# Altium integrated library Microchip Power Management MOSFET Driver.IntLib: 509 symbols (part 1 of 13)
Pins are listed as number, name and electrical type; pins without a type are passive.

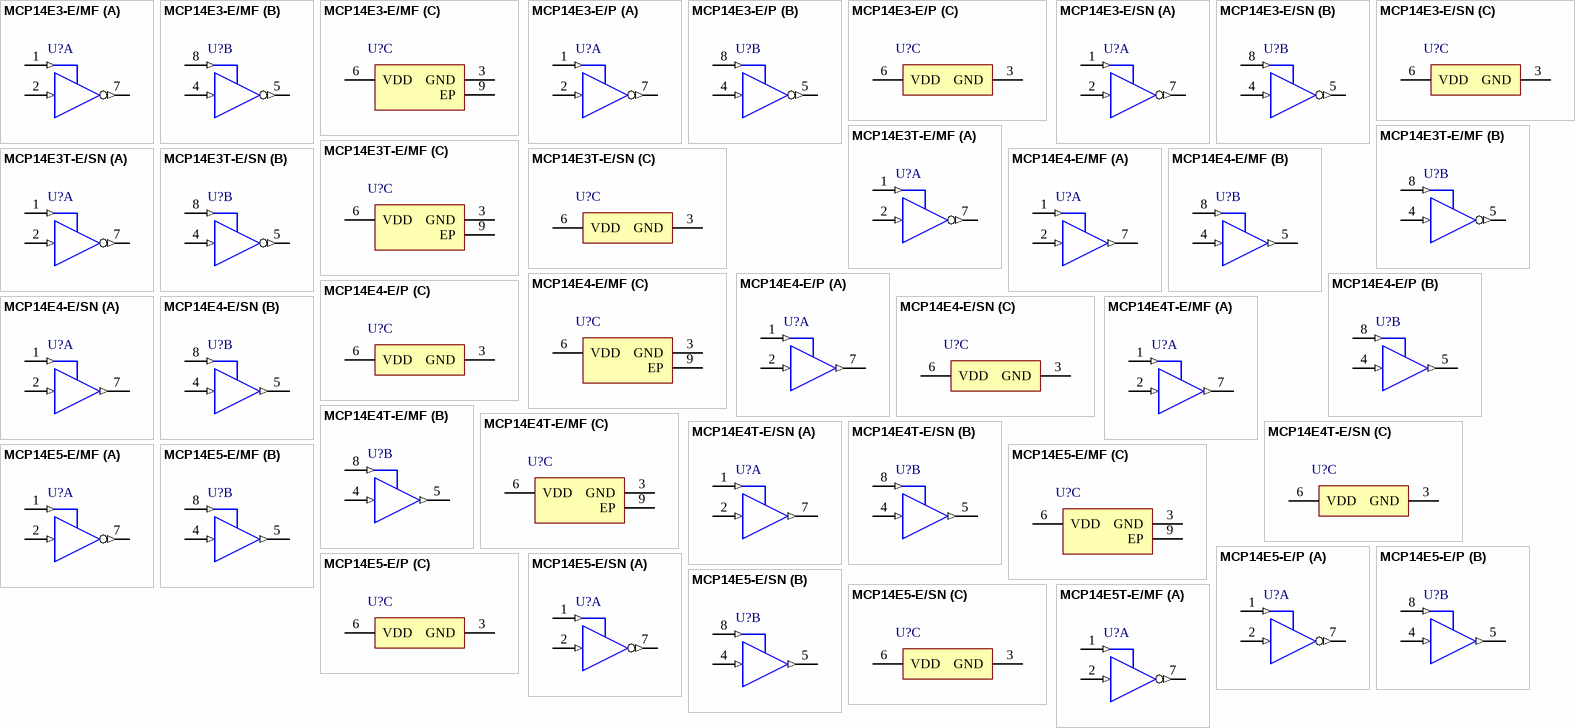
[diagram p0: symbols MCP14E3-E/MF to MCP14E5T-E/MF]

## MCP14E3-E/MF
designator U?
4.0A Dual High-Speed Power MOSFET Drivers With Enable, Inverting, Extended Temperature; Manufacturer: Microchip; PartNumber: MCP14E3-E/MF; DatasheetVersion: revB, Apr-2008; PackageVersion: revBB, Aug-2009; PackageReference: DFN-MF8; PackageDescription: 8-Lead Plastic Dual Flat, No Lead Package (MF) - 3x3x0.9mm Body [DFN]; Supplier 1: Digi-Key; Supplier Part Number 1: MCP14E3-E/MF-ND; Supplier 2: Mouser; Supplier Part Number 2: 579-MCP14E3-E/MF; Mounting Technology: Surface Mount; ComponentLink1Description: Manufacturer URL; ComponentLink1URL: http://www.microchip.com/; ComponentLink2Description: Datasheet; ComponentLink2URL: http://ww1.microchip.com/downloads/en/DeviceDoc/22062b.pdf; ComponentLink3Description: Package Specification; ComponentLink3URL: http://www.microchip.com/stellent/groups/techpub_sg/documents/packagingspec/en012702.pdf
footprint DFN-MF8 (SON, 8-Leads, Body 3x3mm, Pitch 0.65mm, Microchip Recommended)
part A pins: 1 ENB_A (in), 2 INA (in), 7 ~{OUTA} (out)
part B pins: 4 INB (in), 5 ~{OUTB} (out), 8 ENB_B (in)
part C pins: 3 GND (power), 6 VDD (power), 9 EP (power)

## MCP14E3-E/P
designator U?
4.0A Dual High-Speed Power MOSFET Drivers With Enable, Inverting, Extended Temperature; Manufacturer: Microchip; PartNumber: MCP14E3-E/P; DatasheetVersion: revB, Apr-2008; PackageVersion: revBB, Aug-2009; PackageReference: PDIP300-P8; PackageDescription: 8-Lead Plastic Dual In-Line (P) - 300 mil Body [PDIP]; Supplier 1: Digi-Key; Supplier Part Number 1: MCP14E3-E/P-ND; Supplier 2: Farnell; Supplier Part Number 2: 1578353; Supplier 3: Newark; Supplier Part Number 3: 08N6428; Supplier 4: Mouser; Supplier Part Number 4: 579-MCP14E3-E/P; Mounting Technology: Through Hole; Code_JEDEC: MS-001; ComponentLink1Description: Manufacturer URL; ComponentLink1URL: http://www.microchip.com/; ComponentLink2Description: Datasheet; ComponentLink2URL: http://ww1.microchip.com/downloads/en/DeviceDoc/22062b.pdf; ComponentLink3Description: Package Specification; ComponentLink3URL: http://www.microchip.com/stellent/groups/techpub_sg/documents/packagingspec/en012702.pdf
footprint PDIP300-P8 (DIP, 8-Leads, Row Spacing 7.62mm, Pitch 2.54mm, Body 9.5x6.6mm)
part A pins: 1 ENB_A (in), 2 INA (in), 7 ~{OUTA} (out)
part B pins: 4 INB (in), 5 ~{OUTB} (out), 8 ENB_B (in)
part C pins: 3 GND (power), 6 VDD (power)

## MCP14E3-E/SN
designator U?
4.0A Dual High-Speed Power MOSFET Drivers With Enable, Inverting, Extended Temperature; Manufacturer: Microchip; PartNumber: MCP14E3-E/SN; DatasheetVersion: revB, Apr-2008; PackageVersion: revBB, Aug-2009; PackageReference: SOIC-SN8; PackageDescription: 8-Lead Plastic Small Outline (SN) - Narrow, 3.90mm Body [SOIC]; Supplier 1: Digi-Key; Supplier Part Number 1: MCP14E3-E/SN-ND; Supplier 2: Farnell; Supplier Part Number 2: 1578354; Supplier 3: Newark; Supplier Part Number 3: 08N6429; Supplier 4: Mouser; Supplier Part Number 4: 579-MCP14E3-E/SN; Mounting Technology: Surface Mount; Code_JEDEC: MS-012; Code_IPC: SOIC127P600-8; ComponentLink1Description: Manufacturer URL; ComponentLink1URL: http://www.microchip.com/; ComponentLink2Description: Datasheet; ComponentLink2URL: http://ww1.microchip.com/downloads/en/DeviceDoc/22062b.pdf; ComponentLink3Description: Package Specification; ComponentLink3URL: http://www.microchip.com/stellent/groups/techpub_sg/documents/packagingspec/en012702.pdf
footprint SOIC-SN8_N (SOIC, 8-Leads, Body 4.9x3.8mm, Pitch 1.27mm, IPC Medium Density)
footprint SOIC-SN8_L (SOIC, 8-Leads, Body 4.9x3.8mm, Pitch 1.27mm, IPC High Density)
footprint SOIC-SN8_M (SOIC, 8-Leads, Body 4.9x3.8mm, Pitch 1.27mm, IPC Low Density)
part A pins: 1 ENB_A (in), 2 INA (in), 7 ~{OUTA} (out)
part B pins: 4 INB (in), 5 ~{OUTB} (out), 8 ENB_B (in)
part C pins: 3 GND (power), 6 VDD (power)

## MCP14E3T-E/MF
designator U?
4.0A Dual High-Speed Power MOSFET Drivers With Enable, Inverting, Extended Temperature, Tape and Reel; Manufacturer: Microchip; PartNumber: MCP14E3T-E/MF; DatasheetVersion: revB, Apr-2008; PackageVersion: revBB, Aug-2009; PackageReference: DFN-MF8; PackageDescription: 8-Lead Plastic Dual Flat, No Lead Package (MF) - 3x3x0.9mm Body [DFN]; Supplier 1: Digi-Key; Supplier Part Number 1: MCP14E3T-E/MFTR-ND; Supplier 2: Mouser; Supplier Part Number 2: 579-MCP14E3T-E/MF; Mounting Technology: Surface Mount; ComponentLink1Description: Manufacturer URL; ComponentLink1URL: http://www.microchip.com/; ComponentLink2Description: Datasheet; ComponentLink2URL: http://ww1.microchip.com/downloads/en/DeviceDoc/22062b.pdf; ComponentLink3Description: Package Specification; ComponentLink3URL: http://www.microchip.com/stellent/groups/techpub_sg/documents/packagingspec/en012702.pdf
footprint DFN-MF8 (SON, 8-Leads, Body 3x3mm, Pitch 0.65mm, Microchip Recommended)
part A pins: 1 ENB_A (in), 2 INA (in), 7 ~{OUTA} (out)
part B pins: 4 INB (in), 5 ~{OUTB} (out), 8 ENB_B (in)
part C pins: 3 GND (power), 6 VDD (power), 9 EP (power)

## MCP14E3T-E/SN
designator U?
4.0A Dual High-Speed Power MOSFET Drivers With Enable, Inverting, Extended Temperature, Tape and Reel; Manufacturer: Microchip; PartNumber: MCP14E3T-E/SN; DatasheetVersion: revB, Apr-2008; PackageVersion: revBB, Aug-2009; PackageReference: SOIC-SN8; PackageDescription: 8-Lead Plastic Small Outline (SN) - Narrow, 3.90mm Body [SOIC]; Supplier 1: Digi-Key; Supplier Part Number 1: MCP14E3T-E/SNTR-ND; Supplier 2: Mouser; Supplier Part Number 2: 579-MCP14E3T-E/SN; Mounting Technology: Surface Mount; Code_JEDEC: MS-012; Code_IPC: SOIC127P600-8; ComponentLink1Description: Manufacturer URL; ComponentLink1URL: http://www.microchip.com/; ComponentLink2Description: Datasheet; ComponentLink2URL: http://ww1.microchip.com/downloads/en/DeviceDoc/22062b.pdf; ComponentLink3Description: Package Specification; ComponentLink3URL: http://www.microchip.com/stellent/groups/techpub_sg/documents/packagingspec/en012702.pdf
footprint SOIC-SN8_N (SOIC, 8-Leads, Body 4.9x3.8mm, Pitch 1.27mm, IPC Medium Density)
footprint SOIC-SN8_L (SOIC, 8-Leads, Body 4.9x3.8mm, Pitch 1.27mm, IPC High Density)
footprint SOIC-SN8_M (SOIC, 8-Leads, Body 4.9x3.8mm, Pitch 1.27mm, IPC Low Density)
part A pins: 1 ENB_A (in), 2 INA (in), 7 ~{OUTA} (out)
part B pins: 4 INB (in), 5 ~{OUTB} (out), 8 ENB_B (in)
part C pins: 3 GND (power), 6 VDD (power)

## MCP14E4-E/MF
designator U?
4.0A Dual High-Speed Power MOSFET Drivers With Enable, Non Inverting, Extended Temperature; Manufacturer: Microchip; PartNumber: MCP14E4-E/MF; DatasheetVersion: revB, Apr-2008; PackageVersion: revBB, Aug-2009; PackageReference: DFN-MF8; PackageDescription: 8-Lead Plastic Dual Flat, No Lead Package (MF) - 3x3x0.9mm Body [DFN]; Supplier 1: Digi-Key; Supplier Part Number 1: MCP14E4-E/MF-ND; Supplier 2: Mouser; Supplier Part Number 2: 579-MCP14E4-E/MF; Mounting Technology: Surface Mount; ComponentLink1Description: Manufacturer URL; ComponentLink1URL: http://www.microchip.com/; ComponentLink2Description: Datasheet; ComponentLink2URL: http://ww1.microchip.com/downloads/en/DeviceDoc/22062b.pdf; ComponentLink3Description: Package Specification; ComponentLink3URL: http://www.microchip.com/stellent/groups/techpub_sg/documents/packagingspec/en012702.pdf
footprint DFN-MF8 (SON, 8-Leads, Body 3x3mm, Pitch 0.65mm, Microchip Recommended)
part A pins: 1 ENB_A (in), 2 INA (in), 7 OUTA (out)
part B pins: 4 INB (in), 5 OUTB (out), 8 ENB_B (in)
part C pins: 3 GND (power), 6 VDD (power), 9 EP (power)

## MCP14E4-E/P
designator U?
4.0A Dual High-Speed Power MOSFET Drivers With Enable, Non Inverting, Extended Temperature; Manufacturer: Microchip; PartNumber: MCP14E4-E/P; DatasheetVersion: revB, Apr-2008; PackageVersion: revBB, Aug-2009; PackageReference: PDIP300-P8; PackageDescription: 8-Lead Plastic Dual In-Line (P) - 300 mil Body [PDIP]; Supplier 1: Digi-Key; Supplier Part Number 1: MCP14E4-E/P-ND; Supplier 2: Farnell; Supplier Part Number 2: 1578355; Supplier 3: Newark; Supplier Part Number 3: 08N6430; Supplier 4: Mouser; Supplier Part Number 4: 579-MCP14E4-E/P; Mounting Technology: Through Hole; Code_JEDEC: MS-001; ComponentLink1Description: Manufacturer URL; ComponentLink1URL: http://www.microchip.com/; ComponentLink2Description: Datasheet; ComponentLink2URL: http://ww1.microchip.com/downloads/en/DeviceDoc/22062b.pdf; ComponentLink3Description: Package Specification; ComponentLink3URL: http://www.microchip.com/stellent/groups/techpub_sg/documents/packagingspec/en012702.pdf
footprint PDIP300-P8 (DIP, 8-Leads, Row Spacing 7.62mm, Pitch 2.54mm, Body 9.5x6.6mm)
part A pins: 1 ENB_A (in), 2 INA (in), 7 OUTA (out)
part B pins: 4 INB (in), 5 OUTB (out), 8 ENB_B (in)
part C pins: 3 GND (power), 6 VDD (power)

## MCP14E4-E/SN
designator U?
4.0A Dual High-Speed Power MOSFET Drivers With Enable, Non Inverting, Extended Temperature; Manufacturer: Microchip; PartNumber: MCP14E4-E/SN; DatasheetVersion: revB, Apr-2008; PackageVersion: revBB, Aug-2009; PackageReference: SOIC-SN8; PackageDescription: 8-Lead Plastic Small Outline (SN) - Narrow, 3.90mm Body [SOIC]; Supplier 1: Digi-Key; Supplier Part Number 1: MCP14E4-E/SN-ND; Supplier 2: Farnell; Supplier Part Number 2: 1578356; Supplier 3: Newark; Supplier Part Number 3: 08N6431; Supplier 4: Mouser; Supplier Part Number 4: 579-MCP14E4-E/SN; Mounting Technology: Surface Mount; Code_JEDEC: MS-012; Code_IPC: SOIC127P600-8; ComponentLink1Description: Manufacturer URL; ComponentLink1URL: http://www.microchip.com/; ComponentLink2Description: Datasheet; ComponentLink2URL: http://ww1.microchip.com/downloads/en/DeviceDoc/22062b.pdf; ComponentLink3Description: Package Specification; ComponentLink3URL: http://www.microchip.com/stellent/groups/techpub_sg/documents/packagingspec/en012702.pdf
footprint SOIC-SN8_N (SOIC, 8-Leads, Body 4.9x3.8mm, Pitch 1.27mm, IPC Medium Density)
footprint SOIC-SN8_L (SOIC, 8-Leads, Body 4.9x3.8mm, Pitch 1.27mm, IPC High Density)
footprint SOIC-SN8_M (SOIC, 8-Leads, Body 4.9x3.8mm, Pitch 1.27mm, IPC Low Density)
part A pins: 1 ENB_A (in), 2 INA (in), 7 OUTA (out)
part B pins: 4 INB (in), 5 OUTB (out), 8 ENB_B (in)
part C pins: 3 GND (power), 6 VDD (power)

## MCP14E4T-E/MF
designator U?
4.0A Dual High-Speed Power MOSFET Drivers With Enable, Non Inverting, Extended Temperature, Tape and Reel; Manufacturer: Microchip; PartNumber: MCP14E4T-E/MF; DatasheetVersion: revB, Apr-2008; PackageVersion: revBB, Aug-2009; PackageReference: DFN-MF8; PackageDescription: 8-Lead Plastic Dual Flat, No Lead Package (MF) - 3x3x0.9mm Body [DFN]; Supplier 1: Digi-Key; Supplier Part Number 1: MCP14E4T-E/MFTR-ND; Supplier 2: Mouser; Supplier Part Number 2: 579-MCP14E4T-E/MF; Mounting Technology: Surface Mount; ComponentLink1Description: Manufacturer URL; ComponentLink1URL: http://www.microchip.com/; ComponentLink2Description: Datasheet; ComponentLink2URL: http://ww1.microchip.com/downloads/en/DeviceDoc/22062b.pdf; ComponentLink3Description: Package Specification; ComponentLink3URL: http://www.microchip.com/stellent/groups/techpub_sg/documents/packagingspec/en012702.pdf
footprint DFN-MF8 (SON, 8-Leads, Body 3x3mm, Pitch 0.65mm, Microchip Recommended)
part A pins: 1 ENB_A (in), 2 INA (in), 7 OUTA (out)
part B pins: 4 INB (in), 5 OUTB (out), 8 ENB_B (in)
part C pins: 3 GND (power), 6 VDD (power), 9 EP (power)

## MCP14E4T-E/SN
designator U?
4.0A Dual High-Speed Power MOSFET Drivers With Enable, Non Inverting, Extended Temperature, Tape and Reel; Manufacturer: Microchip; PartNumber: MCP14E4T-E/SN; DatasheetVersion: revB, Apr-2008; PackageVersion: revBB, Aug-2009; PackageReference: SOIC-SN8; PackageDescription: 8-Lead Plastic Small Outline (SN) - Narrow, 3.90mm Body [SOIC]; Supplier 1: Digi-Key; Supplier Part Number 1: MCP14E4T-E/SNTR-ND; Supplier 2: Mouser; Supplier Part Number 2: 579-MCP14E4T-E/SN; Mounting Technology: Surface Mount; Code_JEDEC: MS-012; Code_IPC: SOIC127P600-8; ComponentLink1Description: Manufacturer URL; ComponentLink1URL: http://www.microchip.com/; ComponentLink2Description: Datasheet; ComponentLink2URL: http://ww1.microchip.com/downloads/en/DeviceDoc/22062b.pdf; ComponentLink3Description: Package Specification; ComponentLink3URL: http://www.microchip.com/stellent/groups/techpub_sg/documents/packagingspec/en012702.pdf
footprint SOIC-SN8_N (SOIC, 8-Leads, Body 4.9x3.8mm, Pitch 1.27mm, IPC Medium Density)
footprint SOIC-SN8_L (SOIC, 8-Leads, Body 4.9x3.8mm, Pitch 1.27mm, IPC High Density)
footprint SOIC-SN8_M (SOIC, 8-Leads, Body 4.9x3.8mm, Pitch 1.27mm, IPC Low Density)
part A pins: 1 ENB_A (in), 2 INA (in), 7 OUTA (out)
part B pins: 4 INB (in), 5 OUTB (out), 8 ENB_B (in)
part C pins: 3 GND (power), 6 VDD (power)

## MCP14E5-E/MF
designator U?
4.0A Dual High-Speed Power MOSFET Drivers With Enable, Complimentary, Extended Temperature; Manufacturer: Microchip; PartNumber: MCP14E5-E/MF; DatasheetVersion: revB, Apr-2008; PackageVersion: revBB, Aug-2009; PackageReference: DFN-MF8; PackageDescription: 8-Lead Plastic Dual Flat, No Lead Package (MF) - 3x3x0.9mm Body [DFN]; Supplier 1: Digi-Key; Supplier Part Number 1: MCP14E5-E/MF-ND; Supplier 2: Mouser; Supplier Part Number 2: 579-MCP14E5-E/MF; Mounting Technology: Surface Mount; ComponentLink1Description: Manufacturer URL; ComponentLink1URL: http://www.microchip.com/; ComponentLink2Description: Datasheet; ComponentLink2URL: http://ww1.microchip.com/downloads/en/DeviceDoc/22062b.pdf; ComponentLink3Description: Package Specification; ComponentLink3URL: http://www.microchip.com/stellent/groups/techpub_sg/documents/packagingspec/en012702.pdf
footprint DFN-MF8 (SON, 8-Leads, Body 3x3mm, Pitch 0.65mm, Microchip Recommended)
part A pins: 1 ENB_A (in), 2 INA (in), 7 ~{OUTA} (out)
part B pins: 4 INB (in), 5 OUTB (out), 8 ENB_B (in)
part C pins: 3 GND (power), 6 VDD (power), 9 EP (power)

## MCP14E5-E/P
designator U?
4.0A Dual High-Speed Power MOSFET Drivers With Enable, Complimentary, Extended Temperature; Manufacturer: Microchip; PartNumber: MCP14E5-E/P; DatasheetVersion: revB, Apr-2008; PackageVersion: revBB, Aug-2009; PackageReference: PDIP300-P8; PackageDescription: 8-Lead Plastic Dual In-Line (P) - 300 mil Body [PDIP]; Supplier 1: Digi-Key; Supplier Part Number 1: MCP14E5-E/P-ND; Supplier 2: Farnell; Supplier Part Number 2: 1578357; Supplier 3: Newark; Supplier Part Number 3: 08N6432; Supplier 4: Mouser; Supplier Part Number 4: 579-MCP14E5-E/P; Mounting Technology: Through Hole; Code_JEDEC: MS-001; ComponentLink1Description: Manufacturer URL; ComponentLink1URL: http://www.microchip.com/; ComponentLink2Description: Datasheet; ComponentLink2URL: http://ww1.microchip.com/downloads/en/DeviceDoc/22062b.pdf; ComponentLink3Description: Package Specification; ComponentLink3URL: http://www.microchip.com/stellent/groups/techpub_sg/documents/packagingspec/en012702.pdf
footprint PDIP300-P8 (DIP, 8-Leads, Row Spacing 7.62mm, Pitch 2.54mm, Body 9.5x6.6mm)
part A pins: 1 ENB_A (in), 2 INA (in), 7 ~{OUTA} (out)
part B pins: 4 INB (in), 5 OUTB (out), 8 ENB_B (in)
part C pins: 3 GND (power), 6 VDD (power)

## MCP14E5-E/SN
designator U?
4.0A Dual High-Speed Power MOSFET Drivers With Enable, Complimentary, Extended Temperature; Manufacturer: Microchip; PartNumber: MCP14E5-E/SN; DatasheetVersion: revB, Apr-2008; PackageVersion: revBB, Aug-2009; PackageReference: SOIC-SN8; PackageDescription: 8-Lead Plastic Small Outline (SN) - Narrow, 3.90mm Body [SOIC]; Supplier 1: Digi-Key; Supplier Part Number 1: MCP14E5-E/SN-ND; Supplier 2: Farnell; Supplier Part Number 2: 1578358; Supplier 3: Newark; Supplier Part Number 3: 08N6433; Supplier 4: Mouser; Supplier Part Number 4: 579-MCP14E5-E/SN; Mounting Technology: Surface Mount; Code_JEDEC: MS-012; Code_IPC: SOIC127P600-8; ComponentLink1Description: Manufacturer URL; ComponentLink1URL: http://www.microchip.com/; ComponentLink2Description: Datasheet; ComponentLink2URL: http://ww1.microchip.com/downloads/en/DeviceDoc/22062b.pdf; ComponentLink3Description: Package Specification; ComponentLink3URL: http://www.microchip.com/stellent/groups/techpub_sg/documents/packagingspec/en012702.pdf
footprint SOIC-SN8_N (SOIC, 8-Leads, Body 4.9x3.8mm, Pitch 1.27mm, IPC Medium Density)
footprint SOIC-SN8_L (SOIC, 8-Leads, Body 4.9x3.8mm, Pitch 1.27mm, IPC High Density)
footprint SOIC-SN8_M (SOIC, 8-Leads, Body 4.9x3.8mm, Pitch 1.27mm, IPC Low Density)
part A pins: 1 ENB_A (in), 2 INA (in), 7 ~{OUTA} (out)
part B pins: 4 INB (in), 5 OUTB (out), 8 ENB_B (in)
part C pins: 3 GND (power), 6 VDD (power)

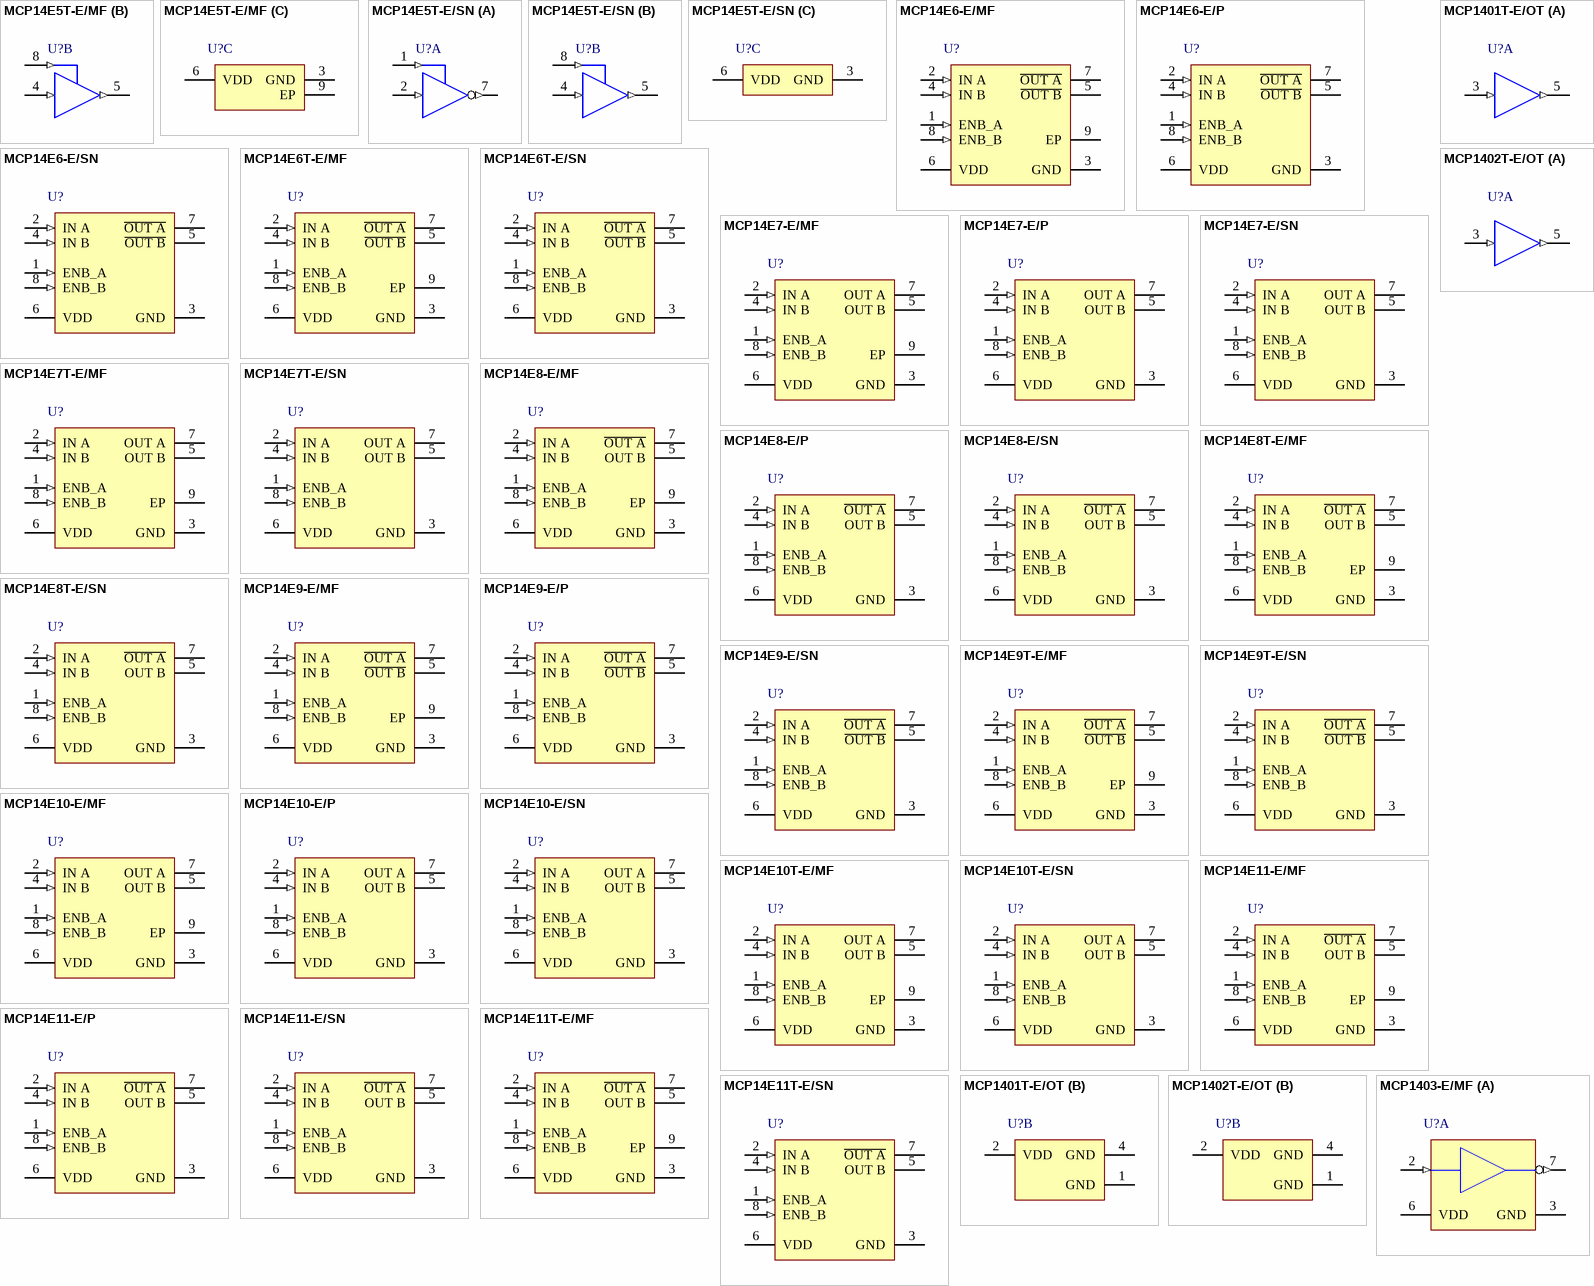
[diagram p1: symbols MCP14E5T-E/MF to MCP1403-E/MF]

## MCP14E5T-E/MF
designator U?
4.0A Dual High-Speed Power MOSFET Drivers With Enable, Complimentary, Extended Temperature, Tape and Reel; Manufacturer: Microchip; PartNumber: MCP14E5T-E/MF; DatasheetVersion: revB, Apr-2008; PackageVersion: revBB, Aug-2009; PackageReference: DFN-MF8; PackageDescription: 8-Lead Plastic Dual Flat, No Lead Package (MF) - 3x3x0.9mm Body [DFN]; Supplier 1: Digi-Key; Supplier Part Number 1: MCP14E5T-E/MFTR-ND; Supplier 2: Mouser; Supplier Part Number 2: 579-MCP14E5T-E/MF; Mounting Technology: Surface Mount; ComponentLink1Description: Manufacturer URL; ComponentLink1URL: http://www.microchip.com/; ComponentLink2Description: Datasheet; ComponentLink2URL: http://ww1.microchip.com/downloads/en/DeviceDoc/22062b.pdf; ComponentLink3Description: Package Specification; ComponentLink3URL: http://www.microchip.com/stellent/groups/techpub_sg/documents/packagingspec/en012702.pdf
footprint DFN-MF8 (SON, 8-Leads, Body 3x3mm, Pitch 0.65mm, Microchip Recommended)
part A pins: 1 ENB_A (in), 2 INA (in), 7 ~{OUTA} (out)
part B pins: 4 INB (in), 5 OUTB (out), 8 ENB_B (in)
part C pins: 3 GND (power), 6 VDD (power), 9 EP (power)

## MCP14E5T-E/SN
designator U?
4.0A Dual High-Speed Power MOSFET Drivers With Enable, Complimentary, Extended Temperature, Tape and Reel; Manufacturer: Microchip; PartNumber: MCP14E5T-E/SN; DatasheetVersion: revB, Apr-2008; PackageVersion: revBB, Aug-2009; PackageReference: SOIC-SN8; PackageDescription: 8-Lead Plastic Small Outline (SN) - Narrow, 3.90mm Body [SOIC]; Supplier 1: Digi-Key; Supplier Part Number 1: MCP14E5T-E/SNTR-ND; Supplier 2: Mouser; Supplier Part Number 2: 579-MCP14E5T-E/SN; Mounting Technology: Surface Mount; Code_JEDEC: MS-012; Code_IPC: SOIC127P600-8; ComponentLink1Description: Manufacturer URL; ComponentLink1URL: http://www.microchip.com/; ComponentLink2Description: Datasheet; ComponentLink2URL: http://ww1.microchip.com/downloads/en/DeviceDoc/22062b.pdf; ComponentLink3Description: Package Specification; ComponentLink3URL: http://www.microchip.com/stellent/groups/techpub_sg/documents/packagingspec/en012702.pdf
footprint SOIC-SN8_N (SOIC, 8-Leads, Body 4.9x3.8mm, Pitch 1.27mm, IPC Medium Density)
footprint SOIC-SN8_L (SOIC, 8-Leads, Body 4.9x3.8mm, Pitch 1.27mm, IPC High Density)
footprint SOIC-SN8_M (SOIC, 8-Leads, Body 4.9x3.8mm, Pitch 1.27mm, IPC Low Density)
part A pins: 1 ENB_A (in), 2 INA (in), 7 ~{OUTA} (out)
part B pins: 4 INB (in), 5 OUTB (out), 8 ENB_B (in)
part C pins: 3 GND (power), 6 VDD (power)

## MCP14E6-E/MF
designator U?
2.0 A Dual High-Speed Power MOSFET Driver with Enable, 18 V, 45 / 45 ns Delay, -40 to 125 degC, 8-pin DFN (MF8), Tube; Manufacturer: Microchip; PartNumber: MCP14E6-E/MF; DatasheetVersion: Rev. A; PackageVersion: C04-062C; PackageReference: DFN-MF8; PackageDescription: 8-Lead Plastic Dual Flat, No Lead Package, 3 x 3 mm Body, 0.65 mm Pitch; Supplier 1: Digi-Key; Supplier Part Number 1: MCP14E6-E/MF-ND; Supplier 2: Farnell; Supplier Part Number 2: 1925032; Supplier 3: Newark; Supplier Part Number 3: 41T4119; Supplier 4: Mouser; Supplier Part Number 4: 579-MCP14E6-E/MF; Mounting Technology: Surface Mount; ComponentLink1Description: Manufacturer URL; ComponentLink1URL: http://www.microchip.com; ComponentLink2Description: Datasheet; ComponentLink2URL: http://ww1.microchip.com/downloads/en/DeviceDoc/25006A.pdf; ComponentLink3Description: Package Specification; ComponentLink3URL: http://www.microchip.com/stellent/groups/techpub_sg/documents/packagingspec/en012702.pdf; ComponentLink4Description: Product URL; ComponentLink4URL: http://www.microchip.com/MCP14E6
footprint MCHP-DFN-MF8_V (SON, 8-Leads, Body 3x3mm, Pitch 0.65mm, Thermal Pad 2.4x1.55mm)
pins: 1 ENB_A (in) "Ouptut A Enable", 2 IN A (in) "Input A", 3 GND (power) "Ground", 4 IN B (in) "Input B", 5 ~{OUT B} (power) "Output B", 6 VDD (power) "Supply Input", 7 ~{OUT A} (power) "Output A", 8 ENB_B (in) "Output B Enable", 9 EP "Exposed Metal Pad (DFN package only). Exposed pad is electrically isolated."

## MCP14E6-E/P
designator U?
2.0 A Dual High-Speed Power MOSFET Driver with Enable, 18 V, 45 / 45 ns Delay, -40 to 125 degC, 8-pin PDIP (P8), Tube; Manufacturer: Microchip; PartNumber: MCP14E6-E/P; DatasheetVersion: Rev. A; PackageVersion: C04-018B; PackageReference: PDIP-P8; PackageDescription: 8-Pin Plastic Dual In-Line, Row Spacing 7.62 mm, 9.5 x 6.6 mm Body, 2.54 mm Pitch; Supplier 1: Digi-Key; Supplier Part Number 1: MCP14E6-E/P-ND; Supplier 2: Farnell; Supplier Part Number 2: 1925033; Supplier 3: Newark; Supplier Part Number 3: 41T4120; Supplier 4: Mouser; Supplier Part Number 4: 579-MCP14E6-E/P; Mounting Technology: Through Hole; ComponentLink1Description: Manufacturer URL; ComponentLink1URL: http://www.microchip.com; ComponentLink2Description: Datasheet; ComponentLink2URL: http://ww1.microchip.com/downloads/en/DeviceDoc/25006A.pdf; ComponentLink3Description: Package Specification; ComponentLink3URL: http://www.microchip.com/stellent/groups/techpub_sg/documents/packagingspec/en012702.pdf; ComponentLink4Description: Product URL; ComponentLink4URL: http://www.microchip.com/MCP14E6
footprint MCHP-PDIP-P8 (PDIP, 8-Leads, Body 9.5x6.604mm, Pitch 2.54mm)
pins: 1 ENB_A (in) "Ouptut A Enable", 2 IN A (in) "Input A", 3 GND (power) "Ground", 4 IN B (in) "Input B", 5 ~{OUT B} (power) "Output B", 6 VDD (power) "Supply Input", 7 ~{OUT A} (power) "Output A", 8 ENB_B (in) "Output B Enable"

## MCP14E6-E/SN
designator U?
2.0 A Dual High-Speed Power MOSFET Driver with Enable, 18 V, 45 / 45 ns Delay, -40 to 125 degC, 8-pin SOIC (SN8), Tube; Manufacturer: Microchip; PartNumber: MCP14E6-E/SN; DatasheetVersion: Rev. A; PackageVersion: C04-057C; PackageReference: SOIC-SN8; PackageDescription: 8-Lead Plastic Small Outline, 4.9 x 3.9 mm Body, 1.27 mm Pitch; Supplier 1: Digi-Key; Supplier Part Number 1: MCP14E6-E/SN-ND; Supplier 2: Farnell; Supplier Part Number 2: 1925034; Supplier 3: Newark; Supplier Part Number 3: 41T4121; Supplier 4: Mouser; Supplier Part Number 4: 579-MCP14E6-E/SN; Mounting Technology: Surface Mount; ComponentLink1Description: Manufacturer URL; ComponentLink1URL: http://www.microchip.com; ComponentLink2Description: Datasheet; ComponentLink2URL: http://ww1.microchip.com/downloads/en/DeviceDoc/25006A.pdf; ComponentLink3Description: Package Specification; ComponentLink3URL: http://www.microchip.com/stellent/groups/techpub_sg/documents/packagingspec/en012702.pdf; ComponentLink4Description: Product URL; ComponentLink4URL: http://www.microchip.com/MCP14E6
footprint MCHP-SOIC-SN8_N (SOIC, 8-Leads, Body 4.9x3.9mm, Pitch 1.27mm, IPC Medium Density)
footprint MCHP-SOIC-SN8_L (SOIC, 8-Leads, Body 4.9x3.9mm, Pitch 1.27mm, IPC High Density)
footprint MCHP-SOIC-SN8_M (SOIC, 8-Leads, Body 4.9x3.9mm, Pitch 1.27mm, IPC Low Density)
pins: 1 ENB_A (in) "Ouptut A Enable", 2 IN A (in) "Input A", 3 GND (power) "Ground", 4 IN B (in) "Input B", 5 ~{OUT B} (power) "Output B", 6 VDD (power) "Supply Input", 7 ~{OUT A} (power) "Output A", 8 ENB_B (in) "Output B Enable"

## MCP14E6T-E/MF
designator U?
2.0 A Dual High-Speed Power MOSFET Driver with Enable, 18 V, 45 / 45 ns Delay, -40 to 125 degC, 8-pin DFN (MF8), Tape and Reel; Manufacturer: Microchip; PartNumber: MCP14E6T-E/MF; DatasheetVersion: Rev. A; PackageVersion: C04-062C; PackageReference: DFN-MF8; PackageDescription: 8-Lead Plastic Dual Flat, No Lead Package, 3 x 3 mm Body, 0.65 mm Pitch; Supplier 1: Digi-Key; Supplier Part Number 1: MCP14E6T-E/MF-ND; Supplier 2: Mouser; Supplier Part Number 2: 579-MCP14E6T-E/MF; Mounting Technology: Surface Mount; ComponentLink1Description: Manufacturer URL; ComponentLink1URL: http://www.microchip.com; ComponentLink2Description: Datasheet; ComponentLink2URL: http://ww1.microchip.com/downloads/en/DeviceDoc/25006A.pdf; ComponentLink3Description: Package Specification; ComponentLink3URL: http://www.microchip.com/stellent/groups/techpub_sg/documents/packagingspec/en012702.pdf; ComponentLink4Description: Product URL; ComponentLink4URL: http://www.microchip.com/MCP14E6
footprint MCHP-DFN-MF8_V (SON, 8-Leads, Body 3x3mm, Pitch 0.65mm, Thermal Pad 2.4x1.55mm)
pins: 1 ENB_A (in) "Ouptut A Enable", 2 IN A (in) "Input A", 3 GND (power) "Ground", 4 IN B (in) "Input B", 5 ~{OUT B} (power) "Output B", 6 VDD (power) "Supply Input", 7 ~{OUT A} (power) "Output A", 8 ENB_B (in) "Output B Enable", 9 EP "Exposed Metal Pad (DFN package only). Exposed pad is electrically isolated."

## MCP14E6T-E/SN
designator U?
2.0 A Dual High-Speed Power MOSFET Driver with Enable, 18 V, 45 / 45 ns Delay, -40 to 125 degC, 8-pin SOIC (SN8), Tape and Reel; Manufacturer: Microchip; PartNumber: MCP14E6T-E/SN; DatasheetVersion: Rev. A; PackageVersion: C04-057C; PackageReference: SOIC-SN8; PackageDescription: 8-Lead Plastic Small Outline, 4.9 x 3.9 mm Body, 1.27 mm Pitch; Supplier 1: Digi-Key; Supplier Part Number 1: MCP14E6T-E/SN-ND; Supplier 2: Mouser; Supplier Part Number 2: 579-MCP14E6T-E/SN; Mounting Technology: Surface Mount; ComponentLink1Description: Manufacturer URL; ComponentLink1URL: http://www.microchip.com; ComponentLink2Description: Datasheet; ComponentLink2URL: http://ww1.microchip.com/downloads/en/DeviceDoc/25006A.pdf; ComponentLink3Description: Package Specification; ComponentLink3URL: http://www.microchip.com/stellent/groups/techpub_sg/documents/packagingspec/en012702.pdf; ComponentLink4Description: Product URL; ComponentLink4URL: http://www.microchip.com/MCP14E6
footprint MCHP-SOIC-SN8_N (SOIC, 8-Leads, Body 4.9x3.9mm, Pitch 1.27mm, IPC Medium Density)
footprint MCHP-SOIC-SN8_L (SOIC, 8-Leads, Body 4.9x3.9mm, Pitch 1.27mm, IPC High Density)
footprint MCHP-SOIC-SN8_M (SOIC, 8-Leads, Body 4.9x3.9mm, Pitch 1.27mm, IPC Low Density)
pins: 1 ENB_A (in) "Ouptut A Enable", 2 IN A (in) "Input A", 3 GND (power) "Ground", 4 IN B (in) "Input B", 5 ~{OUT B} (power) "Output B", 6 VDD (power) "Supply Input", 7 ~{OUT A} (power) "Output A", 8 ENB_B (in) "Output B Enable"

## MCP14E7-E/MF
designator U?
2.0 A Dual High-Speed Power MOSFET Driver with Enable, 18 V, 45 / 45 ns Delay, -40 to 125 degC, 8-pin DFN (MF8), Tube; Manufacturer: Microchip; PartNumber: MCP14E7-E/MF; DatasheetVersion: Rev. A; PackageVersion: C04-062C; PackageReference: DFN-MF8; PackageDescription: 8-Lead Plastic Dual Flat, No Lead Package, 3 x 3 mm Body, 0.65 mm Pitch; Supplier 1: Digi-Key; Supplier Part Number 1: MCP14E7-E/MF-ND; Supplier 2: Farnell; Supplier Part Number 2: 1925035; Supplier 3: Newark; Supplier Part Number 3: 41T4124; Supplier 4: Mouser; Supplier Part Number 4: 579-MCP14E7-E/MF; Mounting Technology: Surface Mount; ComponentLink1Description: Manufacturer URL; ComponentLink1URL: http://www.microchip.com; ComponentLink2Description: Datasheet; ComponentLink2URL: http://ww1.microchip.com/downloads/en/DeviceDoc/25006A.pdf; ComponentLink3Description: Package Specification; ComponentLink3URL: http://www.microchip.com/stellent/groups/techpub_sg/documents/packagingspec/en012702.pdf; ComponentLink4Description: Product URL; ComponentLink4URL: http://www.microchip.com/MCP14E7
footprint MCHP-DFN-MF8_V (SON, 8-Leads, Body 3x3mm, Pitch 0.65mm, Thermal Pad 2.4x1.55mm)
pins: 1 ENB_A (in) "Ouptut A Enable", 2 IN A (in) "Input A", 3 GND (power) "Ground", 4 IN B (in) "Input B", 5 OUT B (power) "Output B", 6 VDD (power) "Supply Input", 7 OUT A (power) "Output A", 8 ENB_B (in) "Output B Enable", 9 EP "Exposed Metal Pad (DFN package only). Exposed pad is electrically isolated."

## MCP14E7-E/P
designator U?
2.0 A Dual High-Speed Power MOSFET Driver with Enable, 18 V, 45 / 45 ns Delay, -40 to 125 degC, 8-pin PDIP (P8), Tube; Manufacturer: Microchip; PartNumber: MCP14E7-E/P; DatasheetVersion: Rev. A; PackageVersion: C04-018B; PackageReference: PDIP-P8; PackageDescription: 8-Pin Plastic Dual In-Line, Row Spacing 7.62 mm, 9.5 x 6.6 mm Body, 2.54 mm Pitch; Supplier 1: Digi-Key; Supplier Part Number 1: MCP14E7-E/P-ND; Supplier 2: Farnell; Supplier Part Number 2: 1925036; Supplier 3: Newark; Supplier Part Number 3: 41T4125; Supplier 4: Mouser; Supplier Part Number 4: 579-MCP14E7-E/P; Mounting Technology: Through Hole; ComponentLink1Description: Manufacturer URL; ComponentLink1URL: http://www.microchip.com; ComponentLink2Description: Datasheet; ComponentLink2URL: http://ww1.microchip.com/downloads/en/DeviceDoc/25006A.pdf; ComponentLink3Description: Package Specification; ComponentLink3URL: http://www.microchip.com/stellent/groups/techpub_sg/documents/packagingspec/en012702.pdf; ComponentLink4Description: Product URL; ComponentLink4URL: http://www.microchip.com/MCP14E7
footprint MCHP-PDIP-P8 (PDIP, 8-Leads, Body 9.5x6.604mm, Pitch 2.54mm)
pins: 1 ENB_A (in) "Ouptut A Enable", 2 IN A (in) "Input A", 3 GND (power) "Ground", 4 IN B (in) "Input B", 5 OUT B (power) "Output B", 6 VDD (power) "Supply Input", 7 OUT A (power) "Output A", 8 ENB_B (in) "Output B Enable"

## MCP14E7-E/SN
designator U?
2.0 A Dual High-Speed Power MOSFET Driver with Enable, 18 V, 45 / 45 ns Delay, -40 to 125 degC, 8-pin SOIC (SN8), Tube; Manufacturer: Microchip; PartNumber: MCP14E7-E/SN; DatasheetVersion: Rev. A; PackageVersion: C04-057C; PackageReference: SOIC-SN8; PackageDescription: 8-Lead Plastic Small Outline, 4.9 x 3.9 mm Body, 1.27 mm Pitch; Supplier 1: Digi-Key; Supplier Part Number 1: MCP14E7-E/SN-ND; Supplier 2: Farnell; Supplier Part Number 2: 1925037; Supplier 3: Newark; Supplier Part Number 3: 41T4126; Supplier 4: Mouser; Supplier Part Number 4: 579-MCP14E7-E/SN; Mounting Technology: Surface Mount; ComponentLink1Description: Manufacturer URL; ComponentLink1URL: http://www.microchip.com; ComponentLink2Description: Datasheet; ComponentLink2URL: http://ww1.microchip.com/downloads/en/DeviceDoc/25006A.pdf; ComponentLink3Description: Package Specification; ComponentLink3URL: http://www.microchip.com/stellent/groups/techpub_sg/documents/packagingspec/en012702.pdf; ComponentLink4Description: Product URL; ComponentLink4URL: http://www.microchip.com/MCP14E7
footprint MCHP-SOIC-SN8_N (SOIC, 8-Leads, Body 4.9x3.9mm, Pitch 1.27mm, IPC Medium Density)
footprint MCHP-SOIC-SN8_L (SOIC, 8-Leads, Body 4.9x3.9mm, Pitch 1.27mm, IPC High Density)
footprint MCHP-SOIC-SN8_M (SOIC, 8-Leads, Body 4.9x3.9mm, Pitch 1.27mm, IPC Low Density)
pins: 1 ENB_A (in) "Ouptut A Enable", 2 IN A (in) "Input A", 3 GND (power) "Ground", 4 IN B (in) "Input B", 5 OUT B (power) "Output B", 6 VDD (power) "Supply Input", 7 OUT A (power) "Output A", 8 ENB_B (in) "Output B Enable"

## MCP14E7T-E/MF
designator U?
2.0 A Dual High-Speed Power MOSFET Driver with Enable, 18 V, 45 / 45 ns Delay, -40 to 125 degC, 8-pin DFN (MF8), Tape and Reel; Manufacturer: Microchip; PartNumber: MCP14E7T-E/MF; DatasheetVersion: Rev. A; PackageVersion: C04-062C; PackageReference: DFN-MF8; PackageDescription: 8-Lead Plastic Dual Flat, No Lead Package, 3 x 3 mm Body, 0.65 mm Pitch; Supplier 1: Digi-Key; Supplier Part Number 1: MCP14E7T-E/MF-ND; Supplier 2: Mouser; Supplier Part Number 2: 579-MCP14E7T-E/MF; Mounting Technology: Surface Mount; ComponentLink1Description: Manufacturer URL; ComponentLink1URL: http://www.microchip.com; ComponentLink2Description: Datasheet; ComponentLink2URL: http://ww1.microchip.com/downloads/en/DeviceDoc/25006A.pdf; ComponentLink3Description: Package Specification; ComponentLink3URL: http://www.microchip.com/stellent/groups/techpub_sg/documents/packagingspec/en012702.pdf; ComponentLink4Description: Product URL; ComponentLink4URL: http://www.microchip.com/MCP14E7
footprint MCHP-DFN-MF8_V (SON, 8-Leads, Body 3x3mm, Pitch 0.65mm, Thermal Pad 2.4x1.55mm)
pins: 1 ENB_A (in) "Ouptut A Enable", 2 IN A (in) "Input A", 3 GND (power) "Ground", 4 IN B (in) "Input B", 5 OUT B (power) "Output B", 6 VDD (power) "Supply Input", 7 OUT A (power) "Output A", 8 ENB_B (in) "Output B Enable", 9 EP "Exposed Metal Pad (DFN package only). Exposed pad is electrically isolated."

## MCP14E7T-E/SN
designator U?
2.0 A Dual High-Speed Power MOSFET Driver with Enable, 18 V, 45 / 45 ns Delay, -40 to 125 degC, 8-pin SOIC (SN8), Tape and Reel; Manufacturer: Microchip; PartNumber: MCP14E7T-E/SN; DatasheetVersion: Rev. A; PackageVersion: C04-057C; PackageReference: SOIC-SN8; PackageDescription: 8-Lead Plastic Small Outline, 4.9 x 3.9 mm Body, 1.27 mm Pitch; Supplier 1: Digi-Key; Supplier Part Number 1: MCP14E7T-E/SN-ND; Supplier 2: Mouser; Supplier Part Number 2: 579-MCP14E7T-E/SN; Mounting Technology: Surface Mount; ComponentLink1Description: Manufacturer URL; ComponentLink1URL: http://www.microchip.com; ComponentLink2Description: Datasheet; ComponentLink2URL: http://ww1.microchip.com/downloads/en/DeviceDoc/25006A.pdf; ComponentLink3Description: Package Specification; ComponentLink3URL: http://www.microchip.com/stellent/groups/techpub_sg/documents/packagingspec/en012702.pdf; ComponentLink4Description: Product URL; ComponentLink4URL: http://www.microchip.com/MCP14E7
footprint MCHP-SOIC-SN8_N (SOIC, 8-Leads, Body 4.9x3.9mm, Pitch 1.27mm, IPC Medium Density)
footprint MCHP-SOIC-SN8_L (SOIC, 8-Leads, Body 4.9x3.9mm, Pitch 1.27mm, IPC High Density)
footprint MCHP-SOIC-SN8_M (SOIC, 8-Leads, Body 4.9x3.9mm, Pitch 1.27mm, IPC Low Density)
pins: 1 ENB_A (in) "Ouptut A Enable", 2 IN A (in) "Input A", 3 GND (power) "Ground", 4 IN B (in) "Input B", 5 OUT B (power) "Output B", 6 VDD (power) "Supply Input", 7 OUT A (power) "Output A", 8 ENB_B (in) "Output B Enable"

## MCP14E8-E/MF
designator U?
2.0 A Dual High-Speed Power MOSFET Driver with Enable, 18 V, 45 / 45 ns Delay, -40 to 125 degC, 8-pin DFN (MF8), Tube; Manufacturer: Microchip; PartNumber: MCP14E8-E/MF; DatasheetVersion: Rev. A; PackageVersion: C04-062C; PackageReference: DFN-MF8; PackageDescription: 8-Lead Plastic Dual Flat, No Lead Package, 3 x 3 mm Body, 0.65 mm Pitch; Supplier 1: Digi-Key; Supplier Part Number 1: MCP14E8-E/MF-ND; Supplier 2: Farnell; Supplier Part Number 2: 1925038; Supplier 3: Newark; Supplier Part Number 3: 41T4129; Supplier 4: Mouser; Supplier Part Number 4: 579-MCP14E8-E/MF; Mounting Technology: Surface Mount; ComponentLink1Description: Manufacturer URL; ComponentLink1URL: http://www.microchip.com; ComponentLink2Description: Datasheet; ComponentLink2URL: http://ww1.microchip.com/downloads/en/DeviceDoc/25006A.pdf; ComponentLink3Description: Package Specification; ComponentLink3URL: http://www.microchip.com/stellent/groups/techpub_sg/documents/packagingspec/en012702.pdf; ComponentLink4Description: Product URL; ComponentLink4URL: http://www.microchip.com/MCP14E8
footprint MCHP-DFN-MF8_V (SON, 8-Leads, Body 3x3mm, Pitch 0.65mm, Thermal Pad 2.4x1.55mm)
pins: 1 ENB_A (in) "Ouptut A Enable", 2 IN A (in) "Input A", 3 GND (power) "Ground", 4 IN B (in) "Input B", 5 OUT B (power) "Output B", 6 VDD (power) "Supply Input", 7 ~{OUT A} (power) "Output A", 8 ENB_B (in) "Output B Enable", 9 EP "Exposed Metal Pad (DFN package only). Exposed pad is electrically isolated."

## MCP14E8-E/P
designator U?
2.0 A Dual High-Speed Power MOSFET Driver with Enable, 18 V, 45 / 45 ns Delay, -40 to 125 degC, 8-pin PDIP (P8), Tube; Manufacturer: Microchip; PartNumber: MCP14E8-E/P; DatasheetVersion: Rev. A; PackageVersion: C04-018B; PackageReference: PDIP-P8; PackageDescription: 8-Pin Plastic Dual In-Line, Row Spacing 7.62 mm, 9.5 x 6.6 mm Body, 2.54 mm Pitch; Supplier 1: Digi-Key; Supplier Part Number 1: MCP14E8-E/P-ND; Supplier 2: Farnell; Supplier Part Number 2: 2009287; Supplier 3: Newark; Supplier Part Number 3: 41T4130; Supplier 4: Mouser; Supplier Part Number 4: 579-MCP14E8-E/P; Mounting Technology: Through Hole; ComponentLink1Description: Manufacturer URL; ComponentLink1URL: http://www.microchip.com; ComponentLink2Description: Datasheet; ComponentLink2URL: http://ww1.microchip.com/downloads/en/DeviceDoc/25006A.pdf; ComponentLink3Description: Package Specification; ComponentLink3URL: http://www.microchip.com/stellent/groups/techpub_sg/documents/packagingspec/en012702.pdf; ComponentLink4Description: Product URL; ComponentLink4URL: http://www.microchip.com/MCP14E8
footprint MCHP-PDIP-P8 (PDIP, 8-Leads, Body 9.5x6.604mm, Pitch 2.54mm)
pins: 1 ENB_A (in) "Ouptut A Enable", 2 IN A (in) "Input A", 3 GND (power) "Ground", 4 IN B (in) "Input B", 5 OUT B (power) "Output B", 6 VDD (power) "Supply Input", 7 ~{OUT A} (power) "Output A", 8 ENB_B (in) "Output B Enable"

## MCP14E8-E/SN
designator U?
2.0 A Dual High-Speed Power MOSFET Driver with Enable, 18 V, 45 / 45 ns Delay, -40 to 125 degC, 8-pin SOIC (SN8), Tube; Manufacturer: Microchip; PartNumber: MCP14E8-E/SN; DatasheetVersion: Rev. A; PackageVersion: C04-057C; PackageReference: SOIC-SN8; PackageDescription: 8-Lead Plastic Small Outline, 4.9 x 3.9 mm Body, 1.27 mm Pitch; Supplier 1: Digi-Key; Supplier Part Number 1: MCP14E8-E/SN-ND; Supplier 2: Farnell; Supplier Part Number 2: 1925041; Supplier 3: Newark; Supplier Part Number 3: 41T4131; Supplier 4: Mouser; Supplier Part Number 4: 579-MCP14E8-E/SN; Mounting Technology: Surface Mount; ComponentLink1Description: Manufacturer URL; ComponentLink1URL: http://www.microchip.com; ComponentLink2Description: Datasheet; ComponentLink2URL: http://ww1.microchip.com/downloads/en/DeviceDoc/25006A.pdf; ComponentLink3Description: Package Specification; ComponentLink3URL: http://www.microchip.com/stellent/groups/techpub_sg/documents/packagingspec/en012702.pdf; ComponentLink4Description: Product URL; ComponentLink4URL: http://www.microchip.com/MCP14E8
footprint MCHP-SOIC-SN8_N (SOIC, 8-Leads, Body 4.9x3.9mm, Pitch 1.27mm, IPC Medium Density)
footprint MCHP-SOIC-SN8_L (SOIC, 8-Leads, Body 4.9x3.9mm, Pitch 1.27mm, IPC High Density)
footprint MCHP-SOIC-SN8_M (SOIC, 8-Leads, Body 4.9x3.9mm, Pitch 1.27mm, IPC Low Density)
pins: 1 ENB_A (in) "Ouptut A Enable", 2 IN A (in) "Input A", 3 GND (power) "Ground", 4 IN B (in) "Input B", 5 OUT B (power) "Output B", 6 VDD (power) "Supply Input", 7 ~{OUT A} (power) "Output A", 8 ENB_B (in) "Output B Enable"

## MCP14E8T-E/MF
designator U?
2.0 A Dual High-Speed Power MOSFET Driver with Enable, 18 V, 45 / 45 ns Delay, -40 to 125 degC, 8-pin DFN (MF8), Tape and Reel; Manufacturer: Microchip; PartNumber: MCP14E8T-E/MF; DatasheetVersion: Rev. A; PackageVersion: C04-062C; PackageReference: DFN-MF8; PackageDescription: 8-Lead Plastic Dual Flat, No Lead Package, 3 x 3 mm Body, 0.65 mm Pitch; Supplier 1: Digi-Key; Supplier Part Number 1: MCP14E8T-E/MF-ND; Supplier 2: Mouser; Supplier Part Number 2: 579-MCP14E8T-E/MF; Mounting Technology: Surface Mount; ComponentLink1Description: Manufacturer URL; ComponentLink1URL: http://www.microchip.com; ComponentLink2Description: Datasheet; ComponentLink2URL: http://ww1.microchip.com/downloads/en/DeviceDoc/25006A.pdf; ComponentLink3Description: Package Specification; ComponentLink3URL: http://www.microchip.com/stellent/groups/techpub_sg/documents/packagingspec/en012702.pdf; ComponentLink4Description: Product URL; ComponentLink4URL: http://www.microchip.com/MCP14E8
footprint MCHP-DFN-MF8_V (SON, 8-Leads, Body 3x3mm, Pitch 0.65mm, Thermal Pad 2.4x1.55mm)
pins: 1 ENB_A (in) "Ouptut A Enable", 2 IN A (in) "Input A", 3 GND (power) "Ground", 4 IN B (in) "Input B", 5 OUT B (power) "Output B", 6 VDD (power) "Supply Input", 7 ~{OUT A} (power) "Output A", 8 ENB_B (in) "Output B Enable", 9 EP "Exposed Metal Pad (DFN package only). Exposed pad is electrically isolated."

## MCP14E8T-E/SN
designator U?
2.0 A Dual High-Speed Power MOSFET Driver with Enable, 18 V, 45 / 45 ns Delay, -40 to 125 degC, 8-pin SOIC (SN8), Tape and Reel; Manufacturer: Microchip; PartNumber: MCP14E8T-E/SN; DatasheetVersion: Rev. A; PackageVersion: C04-057C; PackageReference: SOIC-SN8; PackageDescription: 8-Lead Plastic Small Outline, 4.9 x 3.9 mm Body, 1.27 mm Pitch; Supplier 1: Digi-Key; Supplier Part Number 1: MCP14E8T-E/SN-ND; Supplier 2: Mouser; Supplier Part Number 2: 579-MCP14E8T-E/SN; Mounting Technology: Surface Mount; ComponentLink1Description: Manufacturer URL; ComponentLink1URL: http://www.microchip.com; ComponentLink2Description: Datasheet; ComponentLink2URL: http://ww1.microchip.com/downloads/en/DeviceDoc/25006A.pdf; ComponentLink3Description: Package Specification; ComponentLink3URL: http://www.microchip.com/stellent/groups/techpub_sg/documents/packagingspec/en012702.pdf; ComponentLink4Description: Product URL; ComponentLink4URL: http://www.microchip.com/MCP14E8
footprint MCHP-SOIC-SN8_N (SOIC, 8-Leads, Body 4.9x3.9mm, Pitch 1.27mm, IPC Medium Density)
footprint MCHP-SOIC-SN8_L (SOIC, 8-Leads, Body 4.9x3.9mm, Pitch 1.27mm, IPC High Density)
footprint MCHP-SOIC-SN8_M (SOIC, 8-Leads, Body 4.9x3.9mm, Pitch 1.27mm, IPC Low Density)
pins: 1 ENB_A (in) "Ouptut A Enable", 2 IN A (in) "Input A", 3 GND (power) "Ground", 4 IN B (in) "Input B", 5 OUT B (power) "Output B", 6 VDD (power) "Supply Input", 7 ~{OUT A} (power) "Output A", 8 ENB_B (in) "Output B Enable"

## MCP14E9-E/MF
designator U?
3.0 A Dual High-Speed Power MOSFET Driver with Enable, 18 V, 45 / 45 ns Delay, -40 to 125 degC, 8-pin DFN (MF8), Tube; Manufacturer: Microchip; PartNumber: MCP14E9-E/MF; DatasheetVersion: Rev. A; PackageVersion: C04-062C; PackageReference: DFN-MF8; PackageDescription: 8-Lead Plastic Dual Flat, No Lead Package, 3 x 3 mm Body, 0.65 mm Pitch; Supplier 1: Digi-Key; Supplier Part Number 1: MCP14E9-E/MF-ND; Supplier 2: Farnell; Supplier Part Number 2: 1925042; Supplier 3: Newark; Supplier Part Number 3: 41T4134; Supplier 4: Mouser; Supplier Part Number 4: 579-MCP14E9-E/MF; Mounting Technology: Surface Mount; ComponentLink1Description: Manufacturer URL; ComponentLink1URL: http://www.microchip.com; ComponentLink2Description: Datasheet; ComponentLink2URL: http://ww1.microchip.com/downloads/en/DeviceDoc/25005A_MCP14E9.pdf; ComponentLink3Description: Package Specification; ComponentLink3URL: http://www.microchip.com/stellent/groups/techpub_sg/documents/packagingspec/en012702.pdf; ComponentLink4Description: Product URL; ComponentLink4URL: http://www.microchip.com/MCP14E9
footprint MCHP-DFN-MF8_V (SON, 8-Leads, Body 3x3mm, Pitch 0.65mm, Thermal Pad 2.4x1.55mm)
pins: 1 ENB_A (in) "Ouptut A Enable", 2 IN A (in) "Input A", 3 GND (power) "Ground", 4 IN B (in) "Input B", 5 ~{OUT B} (power) "Output B", 6 VDD (power) "Supply Input", 7 ~{OUT A} (power) "Output A", 8 ENB_B (in) "Output B Enable", 9 EP "Exposed Metal Pad (DFN package only). Exposed pad is electrically isolated."

## MCP14E9-E/P
designator U?
3.0 A Dual High-Speed Power MOSFET Driver with Enable, 18 V, 45 / 45 ns Delay, -40 to 125 degC, 8-pin PDIP (P8), Tube; Manufacturer: Microchip; PartNumber: MCP14E9-E/P; DatasheetVersion: Rev. A; PackageVersion: C04-018B; PackageReference: PDIP-P8; PackageDescription: 8-Pin Plastic Dual In-Line, Row Spacing 7.62 mm, 9.5 x 6.6 mm Body, 2.54 mm Pitch; Supplier 1: Digi-Key; Supplier Part Number 1: MCP14E9-E/P-ND; Supplier 2: Farnell; Supplier Part Number 2: 1925043; Supplier 3: Newark; Supplier Part Number 3: 41T4135; Supplier 4: Mouser; Supplier Part Number 4: 579-MCP14E9-E/P; Mounting Technology: Through Hole; ComponentLink1Description: Manufacturer URL; ComponentLink1URL: http://www.microchip.com; ComponentLink2Description: Datasheet; ComponentLink2URL: http://ww1.microchip.com/downloads/en/DeviceDoc/25005A_MCP14E9.pdf; ComponentLink3Description: Package Specification; ComponentLink3URL: http://www.microchip.com/stellent/groups/techpub_sg/documents/packagingspec/en012702.pdf; ComponentLink4Description: Product URL; ComponentLink4URL: http://www.microchip.com/MCP14E9
footprint MCHP-PDIP-P8 (PDIP, 8-Leads, Body 9.5x6.604mm, Pitch 2.54mm)
pins: 1 ENB_A (in) "Ouptut A Enable", 2 IN A (in) "Input A", 3 GND (power) "Ground", 4 IN B (in) "Input B", 5 ~{OUT B} (power) "Output B", 6 VDD (power) "Supply Input", 7 ~{OUT A} (power) "Output A", 8 ENB_B (in) "Output B Enable"

## MCP14E9-E/SN
designator U?
3.0 A Dual High-Speed Power MOSFET Driver with Enable, 18 V, 45 / 45 ns Delay, -40 to 125 degC, 8-pin SOIC (SN8), Tube; Manufacturer: Microchip; PartNumber: MCP14E9-E/SN; DatasheetVersion: Rev. A; PackageVersion: C04-057C; PackageReference: SOIC-SN8; PackageDescription: 8-Lead Plastic Small Outline, 4.9 x 3.9 mm Body, 1.27 mm Pitch; Supplier 1: Digi-Key; Supplier Part Number 1: MCP14E9-E/SN-ND; Supplier 2: Farnell; Supplier Part Number 2: 1925044; Supplier 3: Newark; Supplier Part Number 3: 41T4136; Supplier 4: Mouser; Supplier Part Number 4: 579-MCP14E9-E/SN; Mounting Technology: Surface Mount; ComponentLink1Description: Manufacturer URL; ComponentLink1URL: http://www.microchip.com; ComponentLink2Description: Datasheet; ComponentLink2URL: http://ww1.microchip.com/downloads/en/DeviceDoc/25005A_MCP14E9.pdf; ComponentLink3Description: Package Specification; ComponentLink3URL: http://www.microchip.com/stellent/groups/techpub_sg/documents/packagingspec/en012702.pdf; ComponentLink4Description: Product URL; ComponentLink4URL: http://www.microchip.com/MCP14E9
footprint MCHP-SOIC-SN8_N (SOIC, 8-Leads, Body 4.9x3.9mm, Pitch 1.27mm, IPC Medium Density)
footprint MCHP-SOIC-SN8_L (SOIC, 8-Leads, Body 4.9x3.9mm, Pitch 1.27mm, IPC High Density)
footprint MCHP-SOIC-SN8_M (SOIC, 8-Leads, Body 4.9x3.9mm, Pitch 1.27mm, IPC Low Density)
pins: 1 ENB_A (in) "Ouptut A Enable", 2 IN A (in) "Input A", 3 GND (power) "Ground", 4 IN B (in) "Input B", 5 ~{OUT B} (power) "Output B", 6 VDD (power) "Supply Input", 7 ~{OUT A} (power) "Output A", 8 ENB_B (in) "Output B Enable"

## MCP14E9T-E/MF
designator U?
3.0 A Dual High-Speed Power MOSFET Driver with Enable, 18 V, 45 / 45 ns Delay, -40 to 125 degC, 8-pin DFN (MF8), Tape and Reel; Manufacturer: Microchip; PartNumber: MCP14E9T-E/MF; DatasheetVersion: Rev. A; PackageVersion: C04-062C; PackageReference: DFN-MF8; PackageDescription: 8-Lead Plastic Dual Flat, No Lead Package, 3 x 3 mm Body, 0.65 mm Pitch; Supplier 1: Digi-Key; Supplier Part Number 1: MCP14E9T-E/MF-ND; Supplier 2: Mouser; Supplier Part Number 2: 579-MCP14E9T-E/MF; Mounting Technology: Surface Mount; ComponentLink1Description: Manufacturer URL; ComponentLink1URL: http://www.microchip.com; ComponentLink2Description: Datasheet; ComponentLink2URL: http://ww1.microchip.com/downloads/en/DeviceDoc/25005A_MCP14E9.pdf; ComponentLink3Description: Package Specification; ComponentLink3URL: http://www.microchip.com/stellent/groups/techpub_sg/documents/packagingspec/en012702.pdf; ComponentLink4Description: Product URL; ComponentLink4URL: http://www.microchip.com/MCP14E9
footprint MCHP-DFN-MF8_V (SON, 8-Leads, Body 3x3mm, Pitch 0.65mm, Thermal Pad 2.4x1.55mm)
pins: 1 ENB_A (in) "Ouptut A Enable", 2 IN A (in) "Input A", 3 GND (power) "Ground", 4 IN B (in) "Input B", 5 ~{OUT B} (power) "Output B", 6 VDD (power) "Supply Input", 7 ~{OUT A} (power) "Output A", 8 ENB_B (in) "Output B Enable", 9 EP "Exposed Metal Pad (DFN package only). Exposed pad is electrically isolated."

## MCP14E9T-E/SN
designator U?
3.0 A Dual High-Speed Power MOSFET Driver with Enable, 18 V, 45 / 45 ns Delay, -40 to 125 degC, 8-pin SOIC (SN8), Tape and Reel; Manufacturer: Microchip; PartNumber: MCP14E9T-E/SN; DatasheetVersion: Rev. A; PackageVersion: C04-057C; PackageReference: SOIC-SN8; PackageDescription: 8-Lead Plastic Small Outline, 4.9 x 3.9 mm Body, 1.27 mm Pitch; Supplier 1: Digi-Key; Supplier Part Number 1: MCP14E9T-E/SN-ND; Supplier 2: Mouser; Supplier Part Number 2: 579-MCP14E9T-E/SN; Mounting Technology: Surface Mount; ComponentLink1Description: Manufacturer URL; ComponentLink1URL: http://www.microchip.com; ComponentLink2Description: Datasheet; ComponentLink2URL: http://ww1.microchip.com/downloads/en/DeviceDoc/25005A_MCP14E9.pdf; ComponentLink3Description: Package Specification; ComponentLink3URL: http://www.microchip.com/stellent/groups/techpub_sg/documents/packagingspec/en012702.pdf; ComponentLink4Description: Product URL; ComponentLink4URL: http://www.microchip.com/MCP14E9
footprint MCHP-SOIC-SN8_N (SOIC, 8-Leads, Body 4.9x3.9mm, Pitch 1.27mm, IPC Medium Density)
footprint MCHP-SOIC-SN8_L (SOIC, 8-Leads, Body 4.9x3.9mm, Pitch 1.27mm, IPC High Density)
footprint MCHP-SOIC-SN8_M (SOIC, 8-Leads, Body 4.9x3.9mm, Pitch 1.27mm, IPC Low Density)
pins: 1 ENB_A (in) "Ouptut A Enable", 2 IN A (in) "Input A", 3 GND (power) "Ground", 4 IN B (in) "Input B", 5 ~{OUT B} (power) "Output B", 6 VDD (power) "Supply Input", 7 ~{OUT A} (power) "Output A", 8 ENB_B (in) "Output B Enable"